# Altium schematic symbol library jumpers.SchLib: 2 symbols
Pins are listed as number, name and electrical type; pins without a type are passive.

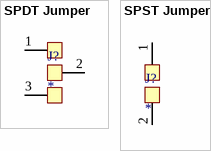
[diagram p0: symbols SPDT Jumper to SPST Jumper]

## SPDT Jumper
designator J?
footprint SPDT Jumper
pins: 1, 2, 3

## SPST Jumper
designator J?
footprint SPST Solder Jumper
pins: 1, 2